# Altium schematic symbol library 预驱芯片.SchLib: 5 symbols
Pins are listed as number, name and electrical type; pins without a type are passive.

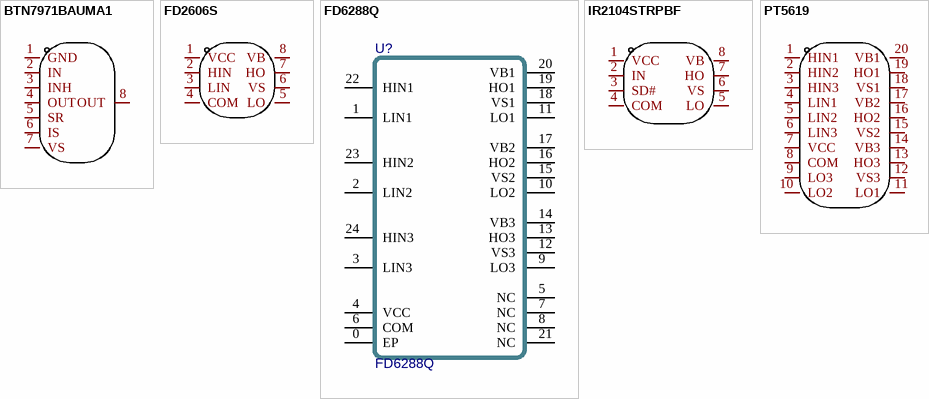
[diagram p0: symbols BTN7971BAUMA1 to PT5619]

## BTN7971BAUMA1
designator U??  (value not drawn)
Manufacturer: Infineon(英飞凌); Add into BOM: yes; Name: BTN7971BAUMA1; Symbol: BTN7971BAUMA1; Device: BTN7971BAUMA1; LCSC Part Name: BTN7971BAUMA1; Supplier Part: C69297; Manufacturer Part: BTN7971BAUMA1; Supplier Footprint: TO-263-7; JLCPCB Part Class: Extended Part; Datasheet: https://atta.szlcsc.com/upload/public/pdf/source/20220610/2E70A4933A0E4450C9E90FA54E639E3C.pdf; Supplier: LCSC; Convert to PCB: yes
footprint TO-263-7_L10.2-W10.4-P1.27-LS14.4-TL
3D model TO-263-7_8PIN-L10.2-W10.4-H4.7-P1.27-LS14.4-TL
pins: 1 GND, 2 IN, 3 INH, 4 OUT, 5 SR, 6 IS, 7 VS, 8 OUT

## FD2606S
designator U??  (value not drawn)
Manufacturer: Fortior Tech(峰岹); Add into BOM: yes; Symbol: FD2606S; Device: FD2606S; Supplier: LCSC; Supplier Part: C2909830; Manufacturer Part: FD2606S; JLCPCB Part Class: Extended Part; LCSC Part Name: FD2606S; Supplier Footprint: SOP-8; Datasheet: https://atta.szlcsc.com/upload/public/pdf/source/20211021/5649DF2996F9E6339AB8CE2D6BF46940.pdf; Convert to PCB: yes
footprint SOP-8_L4.9-W3.9-P1.27-LS6.0-BL-1
pins: 1 VCC, 2 HIN, 3 LIN, 4 COM, 5 LO, 6 VS, 7 HO, 8 VB

## FD6288Q
designator U?
FD6288Q 三相栅极驱动器
footprint QFN24-4x4
pins: 0 EP, 1 LIN1, 2 LIN2, 3 LIN3, 4 VCC, 5 NC, 6 COM, 7 NC, 8 NC, 9 LO3, 10 LO2, 11 LO1, 12 VS3, 13 HO3, 14 VB3, 15 VS2, 16 HO2, 17 VB2, 18 VS1, 19 HO1, 20 VB1, 21 NC, 22 HIN1, 23 HIN2, 24 HIN3

## IR2104STRPBF
designator U??  (value not drawn)
Manufacturer: Infineon(英飞凌); Add into BOM: yes; Driven Configuration: 半桥; Load Type: MOSFET；IGBT; Number of Drivers: 2; Peak Output Current(sink): 360mA; Peak Output Current(source): 210mA; Supply Voltage: 10V~20V; Rise Time: 100ns; Fall Time: 50ns; Symbol: IR2104STRPBF; Device: IR2104STRPBF; Supplier: LCSC; Manufacturer Part: IR2104STRPBF; Supplier Part: C2960; JLCPCB Part Class: Extended Part; LCSC Part Name: IR2104STRPBF; Supplier Footprint: SOIC-8; Datasheet: https://atta.szlcsc.com/upload/public/pdf/source/20140906/1457707236579.pdf; Convert to PCB: yes; Operating Temperature: -40℃~+150℃@(Tj)
footprint SOIC-8_L4.9-W3.9-P1.27-LS6.0-BL
pins: 1 VCC, 2 IN, 3 SD#, 4 COM, 5 LO, 6 VS, 7 HO, 8 VB

## PT5619
designator U??  (value not drawn)
Manufacturer: PTC(普诚); Add into BOM: yes; Name: PT5619; Symbol: PT5619; Device: PT5619; LCSC Part Name: PT5619; Supplier Part: C481912; Manufacturer Part: PT5619; Supplier Footprint: TSSOP-20; JLCPCB Part Class: Extended Part; Datasheet: https://atta.szlcsc.com/upload/public/pdf/source/20200305/C481912_93B17E1208D2C72EB6EE1B31DB3F06F4.pdf; Supplier: LCSC; Convert to PCB: yes
footprint TSSOP-20_L6.5-W4.4-P0.65-LS6.4-BL
3D model TSSOP-20_L6.5-W4.4-H1.0-LS6.4-P0.65
pins: 1 HIN1, 2 HIN2, 3 HIN3, 4 LIN1, 5 LIN2, 6 LIN3, 7 VCC, 8 COM, 9 LO3, 10 LO2, 11 LO1, 12 VS3, 13 HO3, 14 VB3, 15 VS2, 16 HO2, 17 VB2, 18 VS1, 19 HO1, 20 VB1